# Altium footprint library Buzzer.PcbLib: 1 footprints
Each footprint in its own frame and in the unit in brackets; x right, y up, seen from the top. Pads: shape width x height; smd on the part's side, far side on the other; paste and mask are expansions set on the pad; w line width, h text height; cw(c..) or ccw(c..) is an arc to the next point about the centre after c.
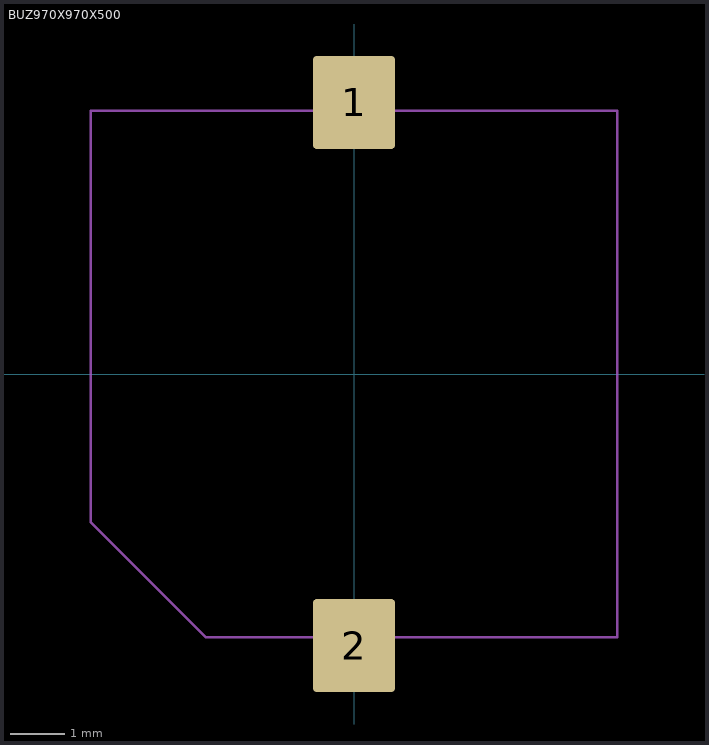
[diagram p0: the footprint, top view; thin cyan lines are the x and y axes]

## BUZ970X970X500 [mm]
pads (2):
  rrect10% 1.5x1.7 smd: 1(0,4.95) 2(0,-4.95)
Top Assembly:
  lines w0.05: -4.8,-2.7 -2.7,-4.8 4.8,-4.8 4.8,4.8 -4.8,4.8 -4.8,-2.7
3D body: height 2, standoff 0, extent -0.7,3.5 0.7,5
3D body: height 2, standoff 0, extent -0.7,-5 0.7,-3.5
3D body: height 5.2, standoff 0.2, extent -4.8,-4.8 4.8,4.8
3D body: height 0.2, standoff 0, extent 2.872,-4.484 4.472,-2.884
3D body: height 0.2, standoff 0, extent 2.9,2.9 4.5,4.5
3D body: height 0.2, standoff 0, extent -4.5,2.9 -2.9,4.5